# EAGLE library part DUO_BTN (library switches)
Khan 12121 ?
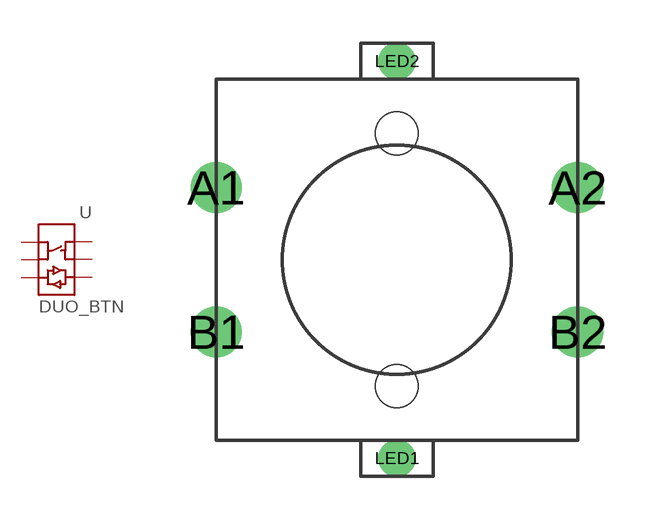
[diagram p0: symbol with the pads of DTL_2; footprint DTL_2]

Designator prefix -

## DUO_BTN  [DTL_2]
A1  A1
A2  A2
B1  B1
B2  B2
LED1  LED+
LED2  LED-

## Footprint DTL_2 (pad centres in mm)
drill 1.2: A1 -6.35,2.54; A2 6.35,2.54; B1 -6.35,-2.54; B2 6.35,-2.54
drill 0.8: LED1 0,-6.985; LED2 0,6.985
hole 1.5 at 0,4.445
hole 1.5 at 0,-4.445